# Altium footprint library Odrive.PcbLib: 40 footprints (part 1 of 3)
Each footprint in its own frame and in the unit in brackets; x right, y up, seen from the top. Pads: shape width x height; smd on the part's side, far side on the other; paste and mask are expansions set on the pad; w line width, h text height; cw(c..) or ccw(c..) is an arc to the next point about the centre after c.
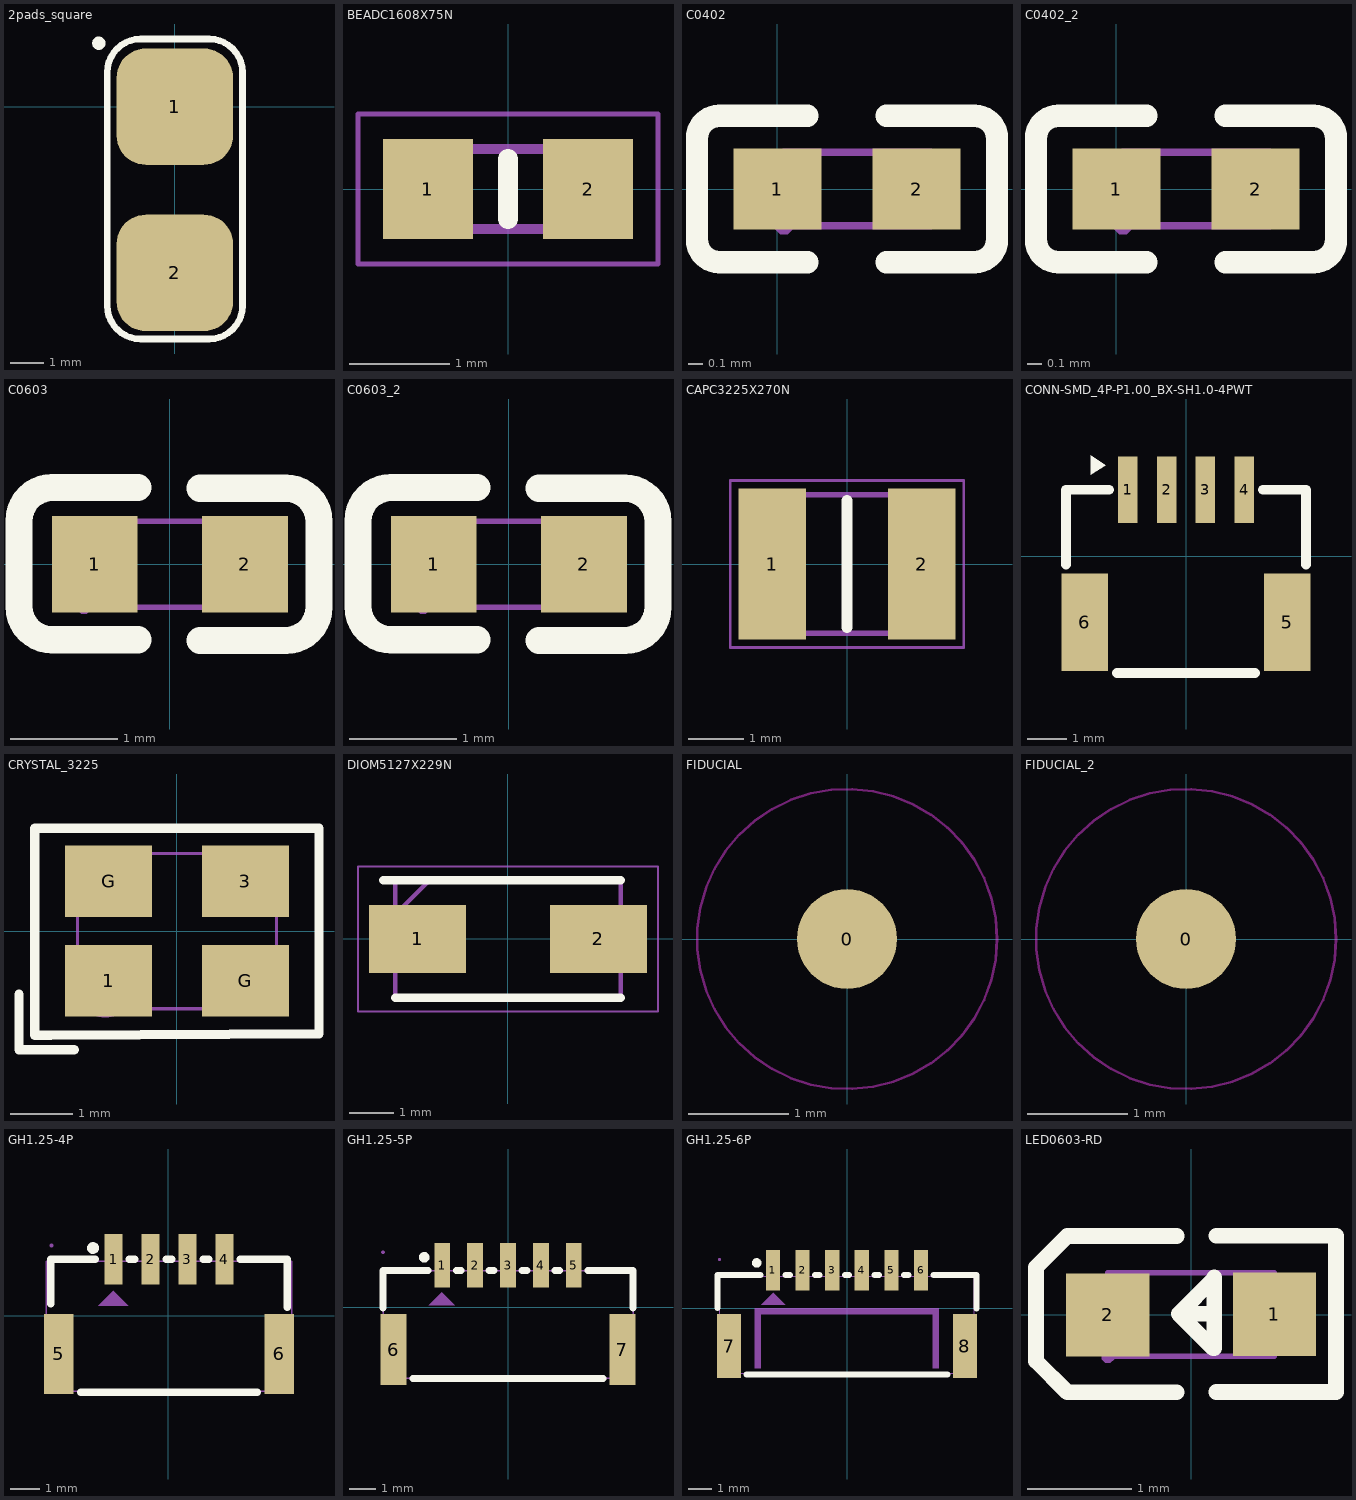
[diagram p0: the footprints below, top view; thin cyan lines are the x and y axes]

## 2pads_square [mm]
pads (2):
  rrect50% 3.5x3.5 smd: 1(0,0) 2(0,-5)
Top Overlay:
  circle w0.2: c-2.286,1.905 r0.1
  lines w0.2: -2.032,-5.985 ccw(c-1.032,-5.985) -1.032,-6.985 1.032,-6.985 ccw(c1.032,-5.985) 2.032,-5.985 2.032,1.032 ccw(c1.032,1.032) 1.032,2.032 -1.032,2.032 ccw(c-1.032,1.032) -2.032,1.032 -2.032,-5.985

## BEADC1608X75N [mm]
height 2
pads (2):
  rect 0.9x1 smd: 1(-0.8,0) 2(0.8,0)
Top Overlay:
  lines w0.2: 0,-0.3 0,0.3
Mechanical 13:
  lines w0.1: -0.8,-0.4 0.8,-0.4 0.8,0.4 -0.8,0.4 -0.8,-0.4
Mechanical 15:
  lines w0.05: -1.5,-0.75 1.5,-0.75 1.5,0.75 -1.5,0.75 -1.5,-0.75
3D body "MPZ1608S601ATA00.stp": height 0.75, standoff 0, extent -0.8,-0.4 0.8,0.4

## C0402 [mm]
height 2
pads (2):
  rect 0.6x0.55 smd paste-100 mask+0.051: 1(0,0) 2(0.95,0)
Top Overlay:
  lines w0.152: -0.395,-0.499 cw(c-0.395,-0.346) -0.547,-0.346 -0.547,0.346 cw(c-0.395,0.346) -0.395,0.499 ; -0.394,-0.499 0.206,-0.499 ; -0.394,0.499 0.206,0.499 ; 0.744,-0.499 1.344,-0.499 ; 0.744,0.499 1.344,0.499 ; 1.345,-0.499 ccw(c1.345,-0.346) 1.497,-0.346 1.497,0.346 ccw(c1.345,0.346) 1.345,0.499
Top Paste:
  region: 1.25,0.224 1.25,-0.226 1.2,-0.276 0.72,-0.276 0.65,-0.226 0.65,0.224 0.72,0.274 1.2,0.274
  region: 0.295,0.222 0.295,-0.228 0.225,-0.278 -0.255,-0.278 -0.305,-0.228 -0.305,0.222 -0.255,0.272 0.225,0.272
Mechanical 15:
  region: 1.045,-0.25 1.045,0.25 0.795,0.25 0.795,-0.25
  region: 0.045,-0.25 0.045,0.25 0.295,0.25 0.295,-0.25
  region: 0.105,-0.25 0.105,-0.225 0.07,-0.19 0.02,-0.19 -0.015,-0.225 -0.015,-0.25 -0.015,-0.275 0.02,-0.31 0.07,-0.31 0.105,-0.275
  lines w0.051: 0.045,-0.25 1.045,-0.25 1.045,0.25 0.045,0.25 0.045,-0.25
3D body "3D_PCB1_2023-04-25.step": height 0.5, standoff 0, extent -0.017,-0.254 0.983,0.246

## C0402_2 [mm]
pads (2):
  rect 0.6x0.55 smd paste-100 mask+0.051: 1(0,0) 2(0.95,0)
Top Overlay:
  lines w0.152: -0.395,-0.499 cw(c-0.395,-0.346) -0.547,-0.346 -0.547,0.346 cw(c-0.395,0.346) -0.395,0.499 ; -0.394,-0.499 0.206,-0.499 ; -0.394,0.499 0.206,0.499 ; 0.744,-0.499 1.344,-0.499 ; 0.744,0.499 1.344,0.499 ; 1.345,-0.499 ccw(c1.345,-0.346) 1.497,-0.346 1.497,0.346 ccw(c1.345,0.346) 1.345,0.499
Top Paste:
  region: 1.25,0.224 1.25,-0.226 1.2,-0.276 0.72,-0.276 0.65,-0.226 0.65,0.224 0.72,0.274 1.2,0.274
  region: 0.295,0.222 0.295,-0.228 0.225,-0.278 -0.255,-0.278 -0.305,-0.228 -0.305,0.222 -0.255,0.272 0.225,0.272
Mechanical 15:
  region: 1.045,-0.25 1.045,0.25 0.795,0.25 0.795,-0.25
  region: 0.045,-0.25 0.045,0.25 0.295,0.25 0.295,-0.25
  region: 0.105,-0.25 0.105,-0.225 0.07,-0.19 0.02,-0.19 -0.015,-0.225 -0.015,-0.25 -0.015,-0.275 0.02,-0.31 0.07,-0.31 0.105,-0.275
  lines w0.051: 0.045,-0.25 1.045,-0.25 1.045,0.25 0.045,0.25 0.045,-0.25
3D body "3D_PCB1_2023-04-25.step": height 0.5, standoff 0, extent -0.017,-0.254 0.983,0.246

## C0603 [mm]
height 2
pads (2):
  rect 0.8x0.9 smd mask+0.051: 1(-0.7,0) 2(0.7,0)
Top Overlay:
  lines w0.254: -0.296,-0.704 -1.096,-0.704 cw(c-1.096,-0.394) -1.406,-0.394 -1.405,0.406 cw(c-1.096,0.406) -1.096,0.715 -0.296,0.715 ; 0.28,-0.71 1.08,-0.71 ccw(c1.08,-0.4) 1.39,-0.4 1.39,0.4 ccw(c1.08,0.4) 1.08,0.71 0.28,0.71
Mechanical 15:
  region: -0.8,-0.4 -0.8,0.4 -0.5,0.4 -0.5,-0.4
  region: 0.8,-0.4 0.8,0.4 0.5,0.4 0.5,-0.4
  region: -0.74,-0.4 -0.74,-0.375 -0.775,-0.34 -0.825,-0.34 -0.86,-0.375 -0.86,-0.4 -0.86,-0.425 -0.825,-0.46 -0.775,-0.46 -0.74,-0.425
  lines w0.051: -0.8,-0.4 -0.8,0.4 0.8,0.4 0.8,-0.4 -0.8,-0.4
3D body "C0603.step": height 0.8, standoff 0, extent -0.798,-0.395 0.802,0.405

## C0603_2 [mm]
pads (2):
  rect 0.8x0.9 smd mask+0.051: 1(-0.7,0) 2(0.7,0)
Top Overlay:
  lines w0.254: -0.296,-0.704 -1.096,-0.704 cw(c-1.096,-0.394) -1.406,-0.394 -1.405,0.406 cw(c-1.096,0.406) -1.096,0.715 -0.296,0.715 ; 0.28,-0.71 1.08,-0.71 ccw(c1.08,-0.4) 1.39,-0.4 1.39,0.4 ccw(c1.08,0.4) 1.08,0.71 0.28,0.71
Mechanical 15:
  region: 0.8,-0.4 0.8,0.4 0.5,0.4 0.5,-0.4
  region: -0.8,-0.4 -0.8,0.4 -0.5,0.4 -0.5,-0.4
  region: -0.74,-0.4 -0.74,-0.375 -0.775,-0.34 -0.825,-0.34 -0.86,-0.375 -0.86,-0.4 -0.86,-0.425 -0.825,-0.46 -0.775,-0.46 -0.74,-0.425
  lines w0.051: -0.8,-0.4 0.8,-0.4 0.8,0.4 -0.8,0.4 -0.8,-0.4
3D body "C0603.step": height 0.8, standoff 0, extent -0.798,-0.395 0.802,0.405

## CAPC3225X270N [mm]
height 2
pads (2):
  rect 1.22x2.72 smd: 1(-1.35,0) 2(1.35,0)
Top Overlay:
  lines w0.2: 0,-1.15 0,1.15
Mechanical 13:
  lines w0.1: -1.6,-1.25 -1.6,1.25 1.6,1.25 1.6,-1.25 -1.6,-1.25
Mechanical 15:
  lines w0.05: -2.11,-1.51 -2.11,1.51 2.11,1.51 2.11,-1.51 -2.11,-1.51
3D body "CL32A226KAJNNNE.stp": height 2.7, standoff 0, extent -1.6,-1.25 1.6,1.25

## CONN-SMD_4P-P1.00_BX-SH1.0-4PWT [mm]
pads (6):
  rect 0.5x1.7 smd paste+0 mask+0.05: 1(-1.5,1.7) 2(-0.5,1.7) 3(0.5,1.7) 4(1.5,1.7)
  rect 1.2x2.5 smd paste+0 mask+0.05: 5(2.6,-1.7) 6(-2.6,-1.7)
Top Overlay:
  region: -2.064,2.335 -2.445,2.589 -2.445,2.081
  lines w0.254: -3.08,-0.219 -3.08,1.7 -1.981,1.7 ; -1.774,-2.999 1.774,-2.999 ; 1.981,1.7 3.08,1.7 3.08,-0.219

## CRYSTAL_3225 [mm] "4P-L3.2-W2.5-BL-2"
pads (4):
  rect 1.4x1.15 smd paste+0 mask+0.051: 1(-1.1,-0.8) 3(1.1,0.8) G(-1.1,0.8) G(1.1,-0.8)
Top Overlay:
  lines w0.152: -2.54,-1.016 -2.54,-1.778 -2.54,-1.905 -1.651,-1.905 ; -2.286,-1.679 -2.03,-1.679 2.286,-1.651 2.286,0 2.286,1.651 -2.286,1.651 -2.286,-1.679
Mechanical 6:
  circle w0.5: c-1.143,-0.889 r0.25
Mechanical 15:
  region: 0.5,1.15 1.5,1.15 1.5,0.35 0.5,0.35
  region: -1.5,1.15 -0.5,1.15 -0.5,0.35 -1.5,0.35
  region: -1.5,-0.35 -0.5,-0.35 -0.5,-1.15 -1.5,-1.15
  region: 0.5,-0.35 1.5,-0.35 1.5,-1.15 0.5,-1.15
  region: -1.54,-1.25 -1.54,-1.225 -1.575,-1.19 -1.625,-1.19 -1.66,-1.225 -1.66,-1.25 -1.66,-1.275 -1.625,-1.31 -1.575,-1.31 -1.54,-1.275
  lines w0.051: -1.6,-1.25 -1.6,1.25 1.6,1.25 1.6,-1.25 -1.6,-1.25
3D body "3d_pcb1_2023-08-30_asm.stp": height 0.81, standoff 0, extent -1.6,-1.255 1.6,1.245

## DIOM5127X229N [mm]
pads (2):
  rect 2.2x1.55 smd: 1(-2.05,0) 2(2.05,0)
Top Overlay:
  lines w0.2: -2.825,1.332 2.552,1.332 ; -2.552,-1.332 2.552,-1.332
Mechanical 13:
  lines w0.1: -2.552,0.558 -1.778,1.332 ; -2.552,-1.332 -2.552,1.332 2.552,1.332 2.552,-1.332 -2.552,-1.332
Mechanical 15:
  lines w0.05: -3.4,-1.645 -3.4,1.645 3.4,1.645 3.4,-1.645 -3.4,-1.645
3D body "SMAJ30A-E3_61.stp": height 2.29, standoff 0, extent -2.552,-1.332 2.552,1.332

## FIDUCIAL [mm] "1mm fiducial with 3mm keepout"
height 2
pads (1):
  round 1 smd paste-1 mask+0.5: 0(0,0)
Keep-Out Layer:
  circle w0.025: c0,0 r1.5

## FIDUCIAL_2 [mm]
pads (1):
  round 1 smd paste-1 mask+0.5: 0(0,0)
Keep-Out Layer:
  circle w0.025: c0,0 r1.5

## GH1.25-4P [mm]
pads (6):
  rect 0.6x1.7 smd mask+0.05: 1(-1.845,1.905) 2(-0.595,1.905) 3(0.655,1.905) 4(1.905,1.905)
  rect 1x2.7 smd mask+0.05: 5(-3.695,-1.296) 6(3.755,-1.296)
Top Overlay:
  circle w0.2: c-2.54,2.286 r0.1
  lines w0.254: -3.97,0.405 -3.97,1.905 -2.47,1.905 ; -2.964,-2.595 3.024,-2.595 ; -1.314,1.905 -1.126,1.905 ; -0.064,1.905 0.124,1.905 ; 1.186,1.905 1.374,1.905 ; 2.436,1.905 2.53,1.905 4.03,1.905 4.03,0.285
Mechanical 6:
  region: -2.357,0.336 -1.357,0.336 -1.857,0.836
Mechanical 15:
  region: 2.005,1.248 1.805,1.248 1.805,2.248 2.005,2.248
  region: 0.755,1.248 0.555,1.248 0.555,2.248 0.755,2.248
  region: -0.495,1.248 -0.695,1.248 -0.695,2.248 -0.495,2.248
  region: -1.745,1.248 -1.945,1.248 -1.945,2.248 -1.745,2.248
  region: 3.855,-2.546 3.655,-2.546 3.655,-0.046 3.855,-0.046
  region: -3.595,-2.546 -3.795,-2.546 -3.795,-0.046 -3.595,-0.046
  region: -4.008,2.375 -4.008,2.35 -3.973,2.315 -3.923,2.315 -3.888,2.35 -3.888,2.375 -3.888,2.399 -3.923,2.435 -3.973,2.435 -4.008,2.399
  lines w0.051: -4.12,-2.559 4.18,-2.559 4.18,1.841 -4.12,1.841 -4.12,-2.559
3D body "3D_PCB1_2023-04-15.step": height 4.26, standoff 0, extent -4.125,-2.667 4.125,2.192

## GH1.25-5P [mm]
pads (7):
  rect 0.6x1.7 smd mask+0.05: 1(-2.5,1.6) 2(-1.25,1.6) 3(0,1.6) 4(1.25,1.6) 5(2.5,1.6)
  rect 1x2.7 smd mask+0.05: 6(-4.35,-1.6) 7(4.35,-1.6)
Top Overlay:
  circle w0.2: c-3.185,1.905 r0.1
  lines w0.254: -4.75,-0.019 -4.75,1.4 -3.031,1.4 ; -3.619,-2.7 3.619,-2.7 ; -1.969,1.4 -1.781,1.4 ; -0.719,1.4 -0.531,1.4 ; 0.531,1.4 0.719,1.4 ; 1.781,1.4 1.969,1.4 ; 3.031,1.4 4.75,1.4 4.75,-0.019
Mechanical 6:
  region: -3.017,0.083 -2.017,0.083 -2.517,0.583
Mechanical 15:
  region: -4.45,-0.9 -4.25,-0.9 -4.25,-2.6 -4.45,-2.6
  region: 4.25,-0.9 4.45,-0.9 4.45,-2.6 4.25,-2.6
  region: 2.4,2.1 2.6,2.1 2.6,1.1 2.4,1.1
  region: 1.15,2.1 1.35,2.1 1.35,1.1 1.15,1.1
  region: -0.1,2.1 0.1,2.1 0.1,1.1 -0.1,1.1
  region: -1.35,2.1 -1.15,2.1 -1.15,1.1 -1.35,1.1
  region: -2.6,2.1 -2.4,2.1 -2.4,1.1 -2.6,1.1
  region: -4.69,2.1 -4.69,2.125 -4.725,2.16 -4.775,2.16 -4.81,2.125 -4.81,2.1 -4.81,2.075 -4.775,2.04 -4.725,2.04 -4.69,2.075
  lines w0.051: -4.75,-2.7 -4.75,1.4 4.75,1.4 4.75,-2.7 -4.75,-2.7
3D body "3D_PCB1_2023-04-15 (2).step": height 4.26, standoff 0, extent -4.75,-2.921 4.75,1.938

## GH1.25-6P [mm]
pads (8):
  rect 0.6x1.7 smd mask+0.051: 1(-3.125,1.6) 2(-1.875,1.6) 3(-0.625,1.6) 4(0.625,1.6) 5(1.875,1.6) 6(3.125,1.6)
  rect 1x2.7 smd mask+0.051: 7(-4.975,-1.6) 8(4.975,-1.6)
Top Overlay:
  circle w0.2: c-3.81,1.905 r0.1
  lines w0.254: -5.461,0 -5.461,1.397 -3.656,1.397 ; -4.244,-2.794 4.244,-2.794 ; -2.594,1.397 -2.406,1.397 ; -1.344,1.397 -1.156,1.397 ; -0.094,1.397 0.094,1.397 ; 1.156,1.397 1.344,1.397 ; 2.406,1.397 2.594,1.397 ; 3.656,1.397 5.461,1.397 5.461,-0.019
Mechanical 6:
  region: -3.606,0.136 -2.606,0.136 -3.106,0.636
  region: -3.886,-2.54 -3.886,0 3.861,0 3.861,-2.54 3.607,-2.54 3.607,-0.254 -3.632,-0.254 -3.632,-2.54
Mechanical 15:
  region: 4.875,-0.85 5.075,-0.85 5.075,-2.35 4.875,-2.35
  region: -5.075,-0.85 -4.875,-0.85 -4.875,-2.35 -5.075,-2.35
  region: 3.025,2.05 3.225,2.05 3.225,1.05 3.025,1.05
  region: 1.775,2.05 1.975,2.05 1.975,1.05 1.775,1.05
  region: 0.525,2.05 0.725,2.05 0.725,1.05 0.525,1.05
  region: -0.725,2.05 -0.525,2.05 -0.525,1.05 -0.725,1.05
  region: -1.975,2.05 -1.775,2.05 -1.775,1.05 -1.975,1.05
  region: -3.225,2.05 -3.025,2.05 -3.025,1.05 -3.225,1.05
  region: -5.315,2.05 -5.315,2.075 -5.35,2.11 -5.399,2.11 -5.435,2.075 -5.435,2.05 -5.435,2.025 -5.399,1.99 -5.35,1.99 -5.315,2.025
  lines w0.051: -5.375,-2.75 5.375,-2.75 5.375,1.35 -5.375,1.35 -5.375,-2.75
3D body "3D_PCB1_2023-04-15 (1).step": height 4.26, standoff 0, extent -5.375,-2.921 5.375,1.938

## LED0603-RD [mm]
pads (2):
  rect 0.8x0.8 smd paste+0 mask+0.051: 1(0.799,0.003) 2(-0.799,-0.003)
Top Overlay:
  lines w0.15: -0.14,-0.746 -1.19,-0.746 -1.49,-0.446 -1.49,-0.346 -1.49,0.354 -1.49,0.454 -1.19,0.754 -0.14,0.754 ; 0.22,0.007 -0.12,0.007 ; 0.24,-0.744 1.39,-0.744 ; 0.24,0.757 1.39,0.757 1.39,-0.723 ; -0.12,0.007 0.21,-0.324 0.22,-0.324 0.22,0.357 0.22,0.347 -0.12,0.007
Mechanical 6:
  region: -1.07,0.062 -0.53,0.062 -0.53,-0.068 -1.07,-0.068
  region: 0.735,-0.267 0.735,0.273 0.865,0.273 0.865,-0.267
  region: 0.529,0.068 1.069,0.068 1.069,-0.062 0.529,-0.062
Mechanical 15:
  region: -0.8,-0.403 -0.8,0.397 -0.5,0.397 -0.5,-0.403
  region: 0.5,-0.396 0.5,0.404 0.8,0.404 0.8,-0.396
  region: -0.739,-0.403 -0.739,-0.379 -0.775,-0.344 -0.824,-0.344 -0.859,-0.379 -0.859,-0.403 -0.859,-0.428 -0.824,-0.463 -0.775,-0.463 -0.739,-0.428
  lines w0.051: -0.8,-0.4 -0.8,0.4 0.8,0.4 0.8,-0.4 -0.8,-0.4
3D body "3d_pcb1_2023-11-21_asm.stp": height 0.56, standoff 0, extent -0.81,-0.406 0.81,0.414